# Altium footprint library power_supply.PcbLib: 21 footprints (part 1 of 2)
Each footprint in its own frame and in the unit in brackets; x right, y up, seen from the top. Pads: shape width x height; smd on the part's side, far side on the other; paste and mask are expansions set on the pad; w line width, h text height; cw(c..) or ccw(c..) is an arc to the next point about the centre after c.
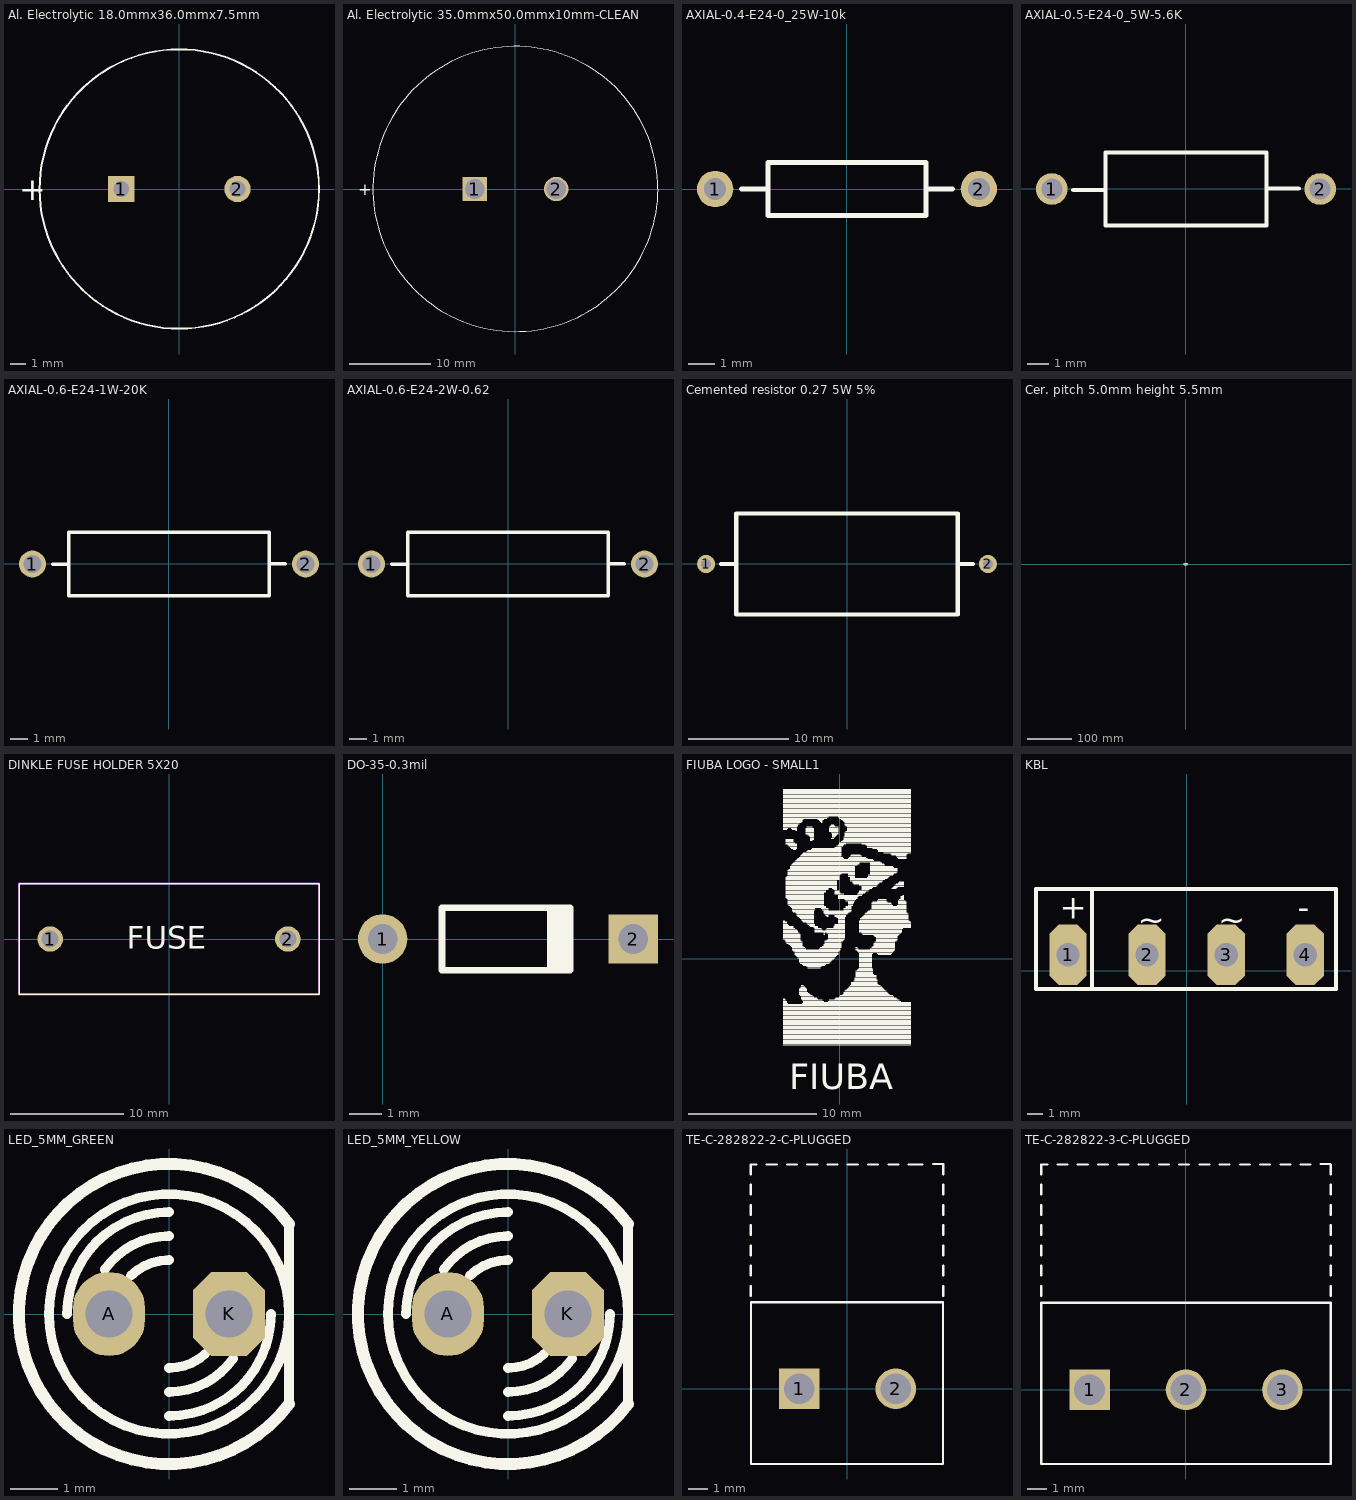
[diagram p0: the footprints below, top view; thin cyan lines are the x and y axes]

## Al. Electrolytic 18.0mmx36.0mmx7.5mm [mm]
pads (2):
  rect 1.7x1.7 hole 1: 1(-3.75,0)
  round 1.7 hole 1: 2(3.75,0)
Top Overlay:
  lines w0.127: 9,0 cw(c0,0) 9,0.022
  text "+" at -10.325,-0.737 h1.5
3D body "Cap-EL(18x36-7_5)T.step": height 37, standoff -3, extent -9,-9 9.002,9

## Al. Electrolytic 35.0mmx50.0mmx10mm-CLEAN [mm]
pads (2):
  rect 3x3 / inner round 0 / far side round 3 hole 2.4: 1(-5,0)
  round 3 / inner round 0 / far side round 3 hole 2.4: 2(5,0)
Top Overlay:
  lines w0.127: 17.5,0.042 ccw(c0,0) 17.5,0
  text "+" at -19.325,-0.737 h1.5
3D body "User Library-Cap-EL(35x50-7_9)-ugly-black.step": height 51.99, standoff -8.86, extent -17.996,-17.996 17.996,17.996
3D body "User Library-Cap-EL(35x50-10)-ugly-black.step": height 8.37, standoff -52.49, extent -17.996,-17.996 17.996,17.996

## AXIAL-0.4-E24-0_25W-10k [mm]
pads (2):
  round 1.4 hole 0.85: 1(-5.08,0) 2(5.08,0)
Top Overlay:
  lines w0.2: -4.064,0 -3.048,0 ; 3.048,0 4.064,0 ; -3.048,-1.016 -3.048,1.016 3.048,1.016 3.048,-1.016 -3.048,-1.016
3D body "Res40-Axial 0_25W-10K.step": height 2.41, standoff -2, extent -5.38,-1.2 5.38,1.2

## AXIAL-0.5-E24-0_5W-5.6K [mm]
pads (2):
  round 1.5 hole 1: 1(-6.35,0) 2(6.35,0)
Top Overlay:
  lines w0.2: -5.334,-0.051 -4.953,-0.051 -4.191,-0.051 -3.81,-0.051 ; 3.81,0.025 5.334,0.025 ; -3.81,-1.727 -3.81,1.727 3.81,1.727 3.81,-1.727 -3.81,-1.727
3D body "Res50-Axial 0_5W-5_6K.step": height 4.3, standoff -5.08, extent -6.725,-1.875 6.725,1.875
3D body "Res50-Axial 0_5W-5_6K.step": height 4.3, standoff -5.08, extent -6.725,-1.875 6.725,1.875

## AXIAL-0.6-E24-1W-20K [mm]
pads (2):
  round 1.5 hole 1: 1(-7.62,0) 2(7.62,0)
Top Overlay:
  lines w0.2: -6.477,-0.025 -5.588,-0.025 ; 5.588,0.025 6.477,0.025 ; -5.588,-1.778 -5.588,1.778 5.588,1.778 5.588,-1.778 -5.588,-1.778
3D body "User Library-Res60-Axial 1W-20K-5%.step": height 5.5, standoff -2.5, extent -7.97,-2.5 7.97,2.5
3D body "User Library-Res60-Axial 1W-20K-5%.step": height 5, standoff -3, extent -7.97,-2.5 7.97,2.5

## AXIAL-0.6-E24-2W-0.62 [mm]
pads (2):
  round 1.5 hole 1: 1(-7.62,0) 2(7.62,0)
Top Overlay:
  lines w0.2: -6.477,-0.025 -5.588,-0.025 ; 5.588,0.025 6.477,0.025 ; -5.588,-1.778 -5.588,1.778 5.588,1.778 5.588,-1.778 -5.588,-1.778
3D body "User Library-Res40-Axial 2W-0R62-5%.step": height 4.5, standoff -3.5, extent -8.02,-2 8.02,2

## Cemented resistor 0.27 5W 5% [mm]
pads (2):
  round 1.8 / inner round 1.4 / far side round 1.8 hole 1: 1(-14,0) 2(14,0)
Top Overlay:
  lines w0.4: -12.5,0 -11,0 ; 11,0 12.5,0 ; -11,-5 -11,5 11,5 11,-5 -11,-5
3D body "Cement Fixed Resistors 5W 0R27 PCB Horizontal.step": height 11, standoff -1.6, extent -14.345,-5 14.345,5

## Cer. pitch 5.0mm height 5.5mm [mm]
pads (3):
  round 0.508 on Mech15: 0(0,0)
  rrect25% 1.905x1.905 hole 0.8: 1(-2.5,0)
  round 1.905 hole 0.8: 2(2.5,0)
Top Overlay:
  lines w0.127: -3.5,-1.27 3.5,-1.27 3.5,1.27 -3.5,1.27 -3.5,-1.27
Mechanical 13:
  lines w0.127: -2.5,-0.3 cw(c-2.5,0) -2.5,0.3 ; -2.25,-0.523 -2.248,-0.511 -2.24,-0.497 -2.228,-0.48 -2.21,-0.461 -2.186,-0.439 -2.157,-0.415 -2.122,-0.387 -2.083,-0.357 -2.046,-0.327 -2.006,-0.292 -1.995,-0.281 -1.983,-0.268 -1.972,-0.254 -1.962,-0.238 -1.958,-0.229 -1.955,-0.218 -1.954,-0.211 -1.953,-0.203 ; -2.25,0.523 cw(c-3.279,-0.727) -1.953,0.203 ; -2.236,-0.718 cw(c-1.896,-0.22) -2.5,-0.217 -2.5,0.217 cw(c-1.896,0.221) -2.232,0.723 -2.23,0.724 -2.206,0.741 ; -2.232,-0.723 -2.225,-0.727 -2.205,-0.742 ; 2.205,0.742 2.225,0.727 2.232,0.723 ; 2.206,-0.741 2.23,-0.724 2.232,-0.723 ccw(c1.896,-0.221) 2.5,-0.217 2.5,0.217 ; 2.236,0.718 cw(c1.896,0.22) 2.5,0.217 ; 2.25,-0.523 2.243,-0.502 2.225,-0.477 2.186,-0.439 2.134,-0.397 2.073,-0.349 2.007,-0.293 1.986,-0.271 1.967,-0.246 1.956,-0.223 1.953,-0.203 ; 2.25,0.523 2.24,0.497 2.21,0.461 2.157,0.415 2.083,0.357 2.046,0.327 2.006,0.292 1.983,0.268 1.962,0.238 1.955,0.218 1.953,0.203 ; 2.5,-0.3 ccw(c2.5,0) 2.5,0.3 ; -1.953,-0.203 -1.953,0.203 ; -1.953,-0.203 1.953,-0.203 ; -1.953,0.203 1.953,0.203 ; -1.8,-1.003 cw(c-1.8,-0.553) -2.25,-0.553 -2.25,0.553 cw(c-1.8,0.553) -1.8,1.003 ; -1.8,-1.003 cw(c-1.777,-0.913) -1.867,-0.935 cw(c9.111,-1.292) -1.819,-0.203 -1.819,0.203 ccw(c-168.083,-10.401) -1.867,0.935 cw(c-1.777,0.912) -1.8,1.003 ; -1.8,-1.003 1.8,-1.003 ; -1.8,1.003 1.8,1.003 ; 1.8,-1.003 ccw(c1.8,-0.553) 2.25,-0.553 2.25,0.553 ccw(c1.8,0.553) 1.8,1.003 ; 1.8,-1.003 ccw(c1.777,-0.912) 1.867,-0.935 cw(c168.269,10.414) 1.819,-0.203 1.819,0.203 ccw(c-9.111,1.292) 1.867,0.935 ccw(c1.777,0.913) 1.8,1.003 ; 1.953,-0.203 1.953,0.203
3D body "TDK FK24 ceramic capacitor.STEP": height 5.47, standoff -2.54, extent -2.797,-1.003 2.798,1.003

## DINKLE FUSE HOLDER 5X20 [mm]
pads (2):
  round 2.25 hole 1.5: 1(-10.5,0) 2(10.5,0)
Top Overlay:
  lines w0.127: -13.25,-4.9 13.25,-4.9 13.25,4.9 -13.25,4.9 -13.25,-4.9
  text "FUSE" at -3.75,-0.85 h2
Mechanical 1:
  lines w0.2: -13.25,-4.9 -13.25,4.9 13.25,4.9 13.25,-4.9 -13.25,-4.9
3D body "User Library-Fuse_Holder_FH-101-1-head.STEP": height 11.7, standoff 3.7, extent -12.25,-4.75 12.25,4.75
3D body "User Library-Fuse_Holder_FH-101-1-pinless.STEP": height 10.7, standoff -0.1, extent -12.15,-4.8 12.15,4.8
3D body "User Library-Fuse_Holder_FH-101-1-onlypin.STEP": height 10, standoff -5, extent -10.7,-3.675 -6.95,3.725
3D body "User Library-Fuse_Holder_FH-101-1-onlypin.STEP": height 10, standoff -5, extent 6.75,-3.7 10.5,3.7

## DO-35-0.3mil [mm]
pads (2):
  round 1.5 hole 0.9: 1(0,0)
  rect 1.5x1.5 hole 0.9: 2(7.62,0)
Top Overlay:
  rectangle: 5.003,-0.95 5.803,0.95
  lines w0.2: 5.703,-0.95 1.803,-0.95 1.803,0.95 5.703,0.95
3D body "DO-35-30.step": height 2.21, standoff -1.8, extent -0.26,-1.016 7.88,1.004

## FIUBA LOGO - SMALL1 [mm]
Top Overlay:
  drawing of 509 lines, arcs and shapes, not listed
  text "FIUBA" at -3.937,-10.16 h2

## KBL [mm]
pads (4):
  oct 2.4x3.9 hole 1.5: 1(-7.62,1.016) 2(-2.54,1.016) 3(2.54,1.016) 4(7.62,1.016)
Top Overlay:
  lines w0.254: -6.071,-1.168 -6.071,5.055 ; 9.5,5.258 -9.677,5.258 -9.677,-1.194 9.601,-1.194 9.601,5.258
  text "~" at 2.032,2.54 h1.52
  text "~" at -3.124,2.54 h1.52
  text "-" at 7.137,3.327 h1.52
  text "+" at -8.153,3.327 h1.52
Top Solder:
  region: 1.194,2.388 1.857,3.051 3.197,3.051 3.861,2.388 3.861,-0.327 3.197,-0.991 2.569,-0.991 1.857,-0.99 1.194,-0.327
  region: 6.274,2.388 6.937,3.051 8.277,3.051 8.941,2.388 8.941,-0.327 8.277,-0.991 7.649,-0.991 6.937,-0.99 6.274,-0.327
  region: -3.886,2.388 -3.223,3.051 -1.883,3.051 -1.219,2.388 -1.219,-0.327 -1.883,-0.991 -2.511,-0.991 -3.223,-0.99 -3.886,-0.327
  region: -8.966,2.388 -8.303,3.051 -6.963,3.051 -6.299,2.388 -6.299,-0.327 -6.963,-0.991 -7.591,-0.991 -8.303,-0.99 -8.966,-0.327
Bottom Solder:
  region: 1.194,2.373 1.857,3.037 3.197,3.037 3.861,2.373 3.861,-0.341 3.197,-1.005 2.568,-1.005 1.857,-1.005 1.194,-0.341
  region: 6.274,2.373 6.937,3.037 8.277,3.037 8.941,2.373 8.941,-0.341 8.277,-1.005 7.648,-1.005 6.937,-1.005 6.274,-0.341
  region: -3.886,2.373 -3.223,3.037 -1.883,3.037 -1.219,2.373 -1.219,-0.341 -1.883,-1.005 -2.512,-1.005 -3.223,-1.005 -3.886,-0.341
  region: -8.966,2.373 -8.303,3.037 -6.963,3.037 -6.299,2.373 -6.299,-0.341 -6.963,-1.005 -7.592,-1.005 -8.303,-1.005 -8.966,-0.341
Mechanical 1:
  lines w0.254: 9.5,5.232 -9.677,5.232 -9.677,-1.168 9.602,-1.168 9.602,5.232
3D body "KBL.step": height 16.32, standoff -3, extent -9.801,-1.115 9.699,5.385

## LED_5MM_GREEN [mil]
pads (2):
  oval 60x70 hole 39.37: A(-50,0)
  oct 60x70 hole 39.37: K(50,0)
Top Overlay:
  circle w8: c0,0 r100
  lines w8: -85,0 cw(c0,0) 0,85 ; -53.4,37.06 cw(c0,0) 0,65 ; -31.82,31.82 cw(c0,0) 0,45 ; 0,-85 ccw(c0,0) 85,0 ; 0,-65 ccw(c0,0) 53.4,-37.06 ; 0,-45 ccw(c0,0) 30.32,-33.25 ; 100,-75 100,75
  lines w10: 100,-75 cw(c0,0) 100,75
3D body "LED-5mm-GREEN.step": height 352.16, standoff -255.91, extent -122.27,-119 94.27,117.22

## LED_5MM_YELLOW [mil]
pads (2):
  oval 60x70 hole 39.37: A(-50,0)
  oct 60x70 hole 39.37: K(50,0)
Top Overlay:
  circle w8: c0,0 r100
  lines w8: -85,0 cw(c0,0) 0,85 ; -53.4,37.06 cw(c0,0) 0,65 ; -31.82,31.82 cw(c0,0) 0,45 ; 0,-85 ccw(c0,0) 85,0 ; 0,-65 ccw(c0,0) 53.4,-37.06 ; 0,-45 ccw(c0,0) 30.32,-33.25 ; 100,-75 100,75
  lines w10: 100,-75 cw(c0,0) 100,75
3D body "LED-5mm-YELLOW.step": height 352.16, standoff -255.91, extent -118.11,-118.11 98.43,118.11

## TE-C-282822-2-C-PLUGGED [mm]
pads (2):
  rect 2.1x2.1 hole 1.6: 1(-2.5,0)
  round 2.1 hole 1.6: 2(2.5,0)
Top Overlay:
  lines w0.127: -5.025,4.825 -5.025,5.325 ; -5.025,5.875 -5.025,6.375 ; -5.025,6.925 -5.025,7.425 ; -5.025,7.975 -5.025,8.475 ; -5.025,9.025 -5.025,9.525 ; -5.025,10.075 -5.025,10.575 ; -5.025,11.125 -5.025,11.625 -4.725,11.625 ; -4.175,11.625 -3.675,11.625 ; -3.125,11.625 -2.625,11.625 ; -2.075,11.625 -1.575,11.625 ; -1.025,11.625 -0.525,11.625 ; 0.025,11.625 0.525,11.625 ; 1.075,11.625 1.575,11.625 ; 2.125,11.625 2.625,11.625 ; 3.175,11.625 3.675,11.625 ; 3.375,11.625 3.875,11.625 ; 4.45,11.65 4.975,11.65 4.975,11.125 ; 4.975,4.825 4.975,5.325 ; 4.975,5.875 4.975,6.375 ; 4.975,6.925 4.975,7.425 ; 4.975,7.975 4.975,8.475 ; 4.975,9.025 4.975,9.525 ; 4.975,10.075 4.975,10.575 ; -5,-3.9 -5,3.075 -5,4.475 4.95,4.475 4.95,-3.9 -5,-3.9
3D body "c-796640-2-e-3d-colored.stp": height 18.43, standoff 0.03, extent -5.025,-3.875 4.975,11.625
3D body "c-282822-2-c-3d-colored.stp": height 12.03, standoff -3.47, extent -5.025,-3.875 4.975,4.475

## TE-C-282822-3-C-PLUGGED [mm]
pads (3):
  rect 2.1x2.1 hole 1.6: 1(-5,0)
  round 2.1 hole 1.6: 2(0,0) 3(5,0)
Top Overlay:
  lines w0.127: -7.5,4.875 -7.5,5.375 ; -7.5,5.925 -7.5,6.425 ; -7.5,6.975 -7.5,7.475 ; -7.5,8.025 -7.5,8.525 ; -7.5,9.075 -7.5,9.575 ; -7.5,10.125 -7.5,10.625 ; -7.5,11.175 -7.5,11.675 -7.2,11.675 ; -6.65,11.675 -6.15,11.675 ; -5.6,11.675 -5.1,11.675 ; -4.55,11.675 -4.05,11.675 ; -3.5,11.675 -3,11.675 ; -2.45,11.675 -1.95,11.675 ; -1.4,11.675 -0.9,11.675 ; -0.35,11.675 0.15,11.675 ; 0.7,11.675 1.2,11.675 ; 1.75,11.675 2.25,11.675 ; 2.8,11.675 3.3,11.675 ; 3.85,11.675 4.35,11.675 ; 4.9,11.675 5.4,11.675 ; 5.95,11.675 6.45,11.675 ; 6.975,11.7 7.475,11.7 ; 7.5,4.875 7.5,5.375 ; 7.5,5.925 7.5,6.425 ; 7.5,6.975 7.5,7.475 ; 7.5,8.025 7.5,8.525 ; 7.5,9.075 7.5,9.575 ; 7.5,10.125 7.5,10.625 ; 7.5,11.175 7.5,11.675 ; -7.5,-3.85 -7.5,4.5 7.5,4.5 7.5,-3.85 -7.5,-3.85
3D body "c-282822-3-c-3d-colored.stp": height 12.03, standoff -3.47, extent -7.5,-3.85 7.5,4.5
3D body "c-796640-3-e-3d-colored.stp": height 18.43, standoff 0.03, extent -7.5,-3.825 7.5,11.675